# EAGLE library part DRF1278F_BKOUT (library adafruit)
PIN HEADER
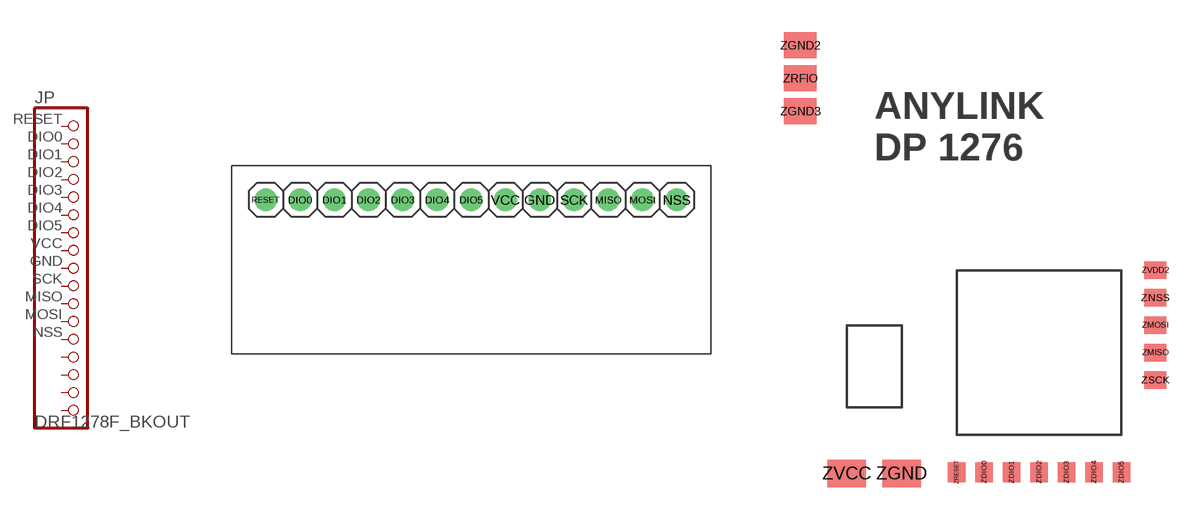
[diagram p75: symbol with the pads of DRF1278F_BKOUT; footprints DRF1278F_BKOUT, ANYLINK_DP1276]

Designator prefix JP

## DRF1278F_BKOUTDRF1278F_BKOUT  [DRF1278F_BKOUT]
DIO0  DIO0  pas
DIO1  DIO1  pas
DIO2  DIO2  pas
DIO3  DIO3  pas
DIO4  DIO4  pas
DIO5  DIO5  pas
GND  GND  pas
MISO  MISO  pas
MOSI  MOSI  pas
NSS  NSS  pas
RESET  RESET  pas
SCK  SCK  pas
VCC  VCC  pas

## DRF1278F_BKOUTDP1276  [ANYLINK_DP1276]
ZDIO0  DIO0  pas
ZDIO1  DIO1  pas
ZDIO2  DIO2  pas
ZDIO3  DIO3  pas
ZDIO4  DIO4  pas
ZDIO5  DIO5  pas
ZGND  GND  pas
ZGND2  RGND1  pas
ZGND3  RGND2  pas
ZMISO  MISO  pas
ZMOSI  MOSI  pas
ZNSS  NSS  pas
ZRESET  RESET  pas
ZRFIO  RFIO  pas
ZSCK  SCK  pas
ZVCC  VCC  pas
ZVDD2  VCC2  pas

## Footprint DRF1278F_BKOUT (pad centres in mm)
drill 1.016 pad 1.676: DIO0 5.08,-2.54; DIO1 7.62,-2.54; DIO2 10.16,-2.54; DIO3 12.7,-2.54; DIO4 15.24,-2.54; DIO5 17.78,-2.54; GND 22.86,-2.54; MISO 27.94,-2.54; MOSI 30.48,-2.54; NSS 33.02,-2.54; RESET 2.54,-2.54; SCK 25.4,-2.54; VCC 20.32,-2.54

## Footprint ANYLINK_DP1276 (pad centres in mm)
smd 0.813 x 0.914: ZDIO0 8.89,-22.047; ZDIO1 10.16,-22.047; ZDIO2 11.43,-22.047; ZDIO3 12.7,-22.047; ZDIO4 13.97,-22.047; ZDIO5 15.24,-22.047; ZRESET 7.62,-22.047
smd 1.778 x 1.27: ZGND 5.08,-22.098; ZVCC 2.54,-22.098
smd 1.5 x 1.2: ZGND2 0.389,-2.286; ZGND3 0.389,-5.334; ZRFIO 0.389,-3.81
smd 1.016 x 0.813: ZMISO 16.81,-16.51; ZMOSI 16.81,-15.24; ZNSS 16.81,-13.97; ZSCK 16.81,-17.78; ZVDD2 16.81,-12.7